# Altium footprint library LabLib.PcbLib: 145 footprints (part 7 of 10)
Each footprint in its own frame and in the unit in brackets; x right, y up, seen from the top. Pads: shape width x height; smd on the part's side, far side on the other; paste and mask are expansions set on the pad; w line width, h text height; cw(c..) or ccw(c..) is an arc to the next point about the centre after c.
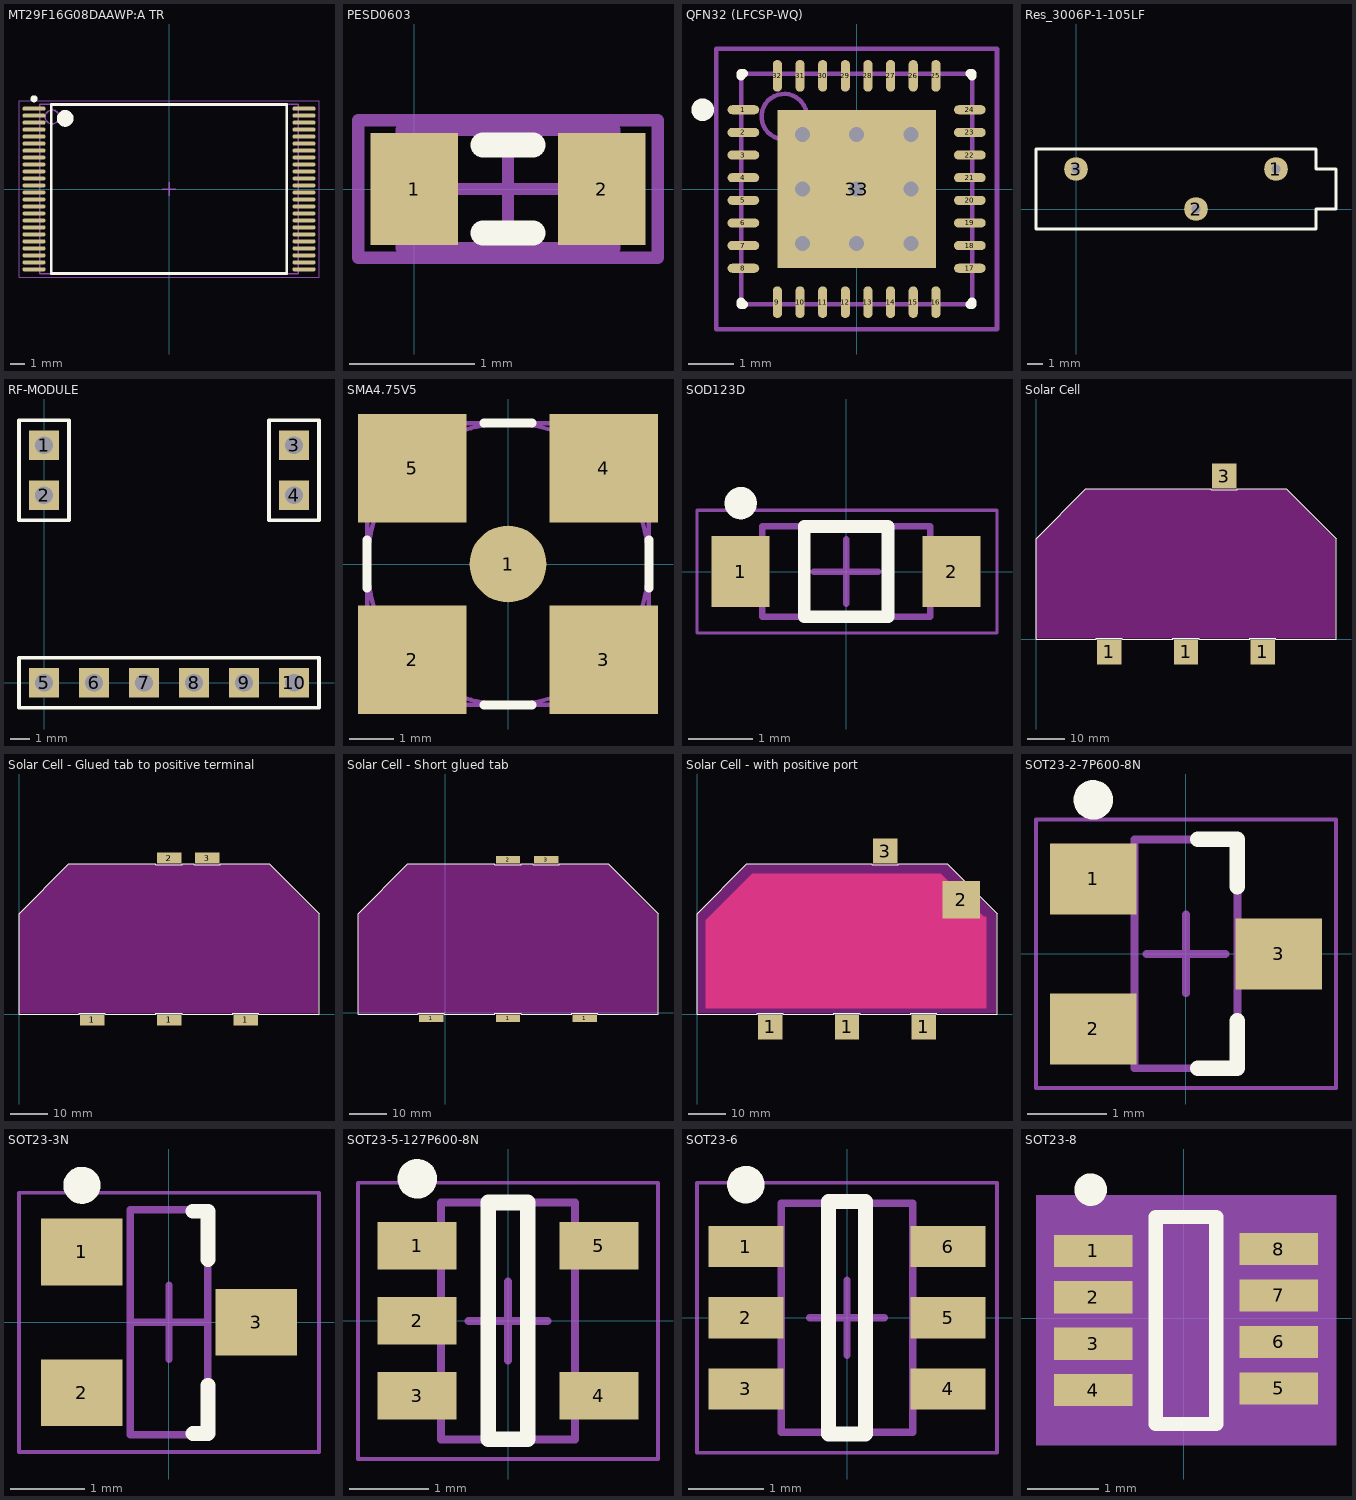
[diagram p6: the footprints below, top view; thin cyan lines are the x and y axes]

## MT29F16G08DAAWP:A TR [mm] "SOP127P600-8N medium density"
height 1.2
pads (48):
  oval 1.65x0.3 smd: 1(-9.65,5.75) 2(-9.65,5.25) 3(-9.65,4.75) 4(-9.65,4.25) 5(-9.65,3.75) 6(-9.65,3.25) 7(-9.65,2.75) 8(-9.65,2.25) 9(-9.65,1.75) 10(-9.65,1.25) 11(-9.65,0.75) 12(-9.65,0.25) 13(-9.65,-0.25) 14(-9.65,-0.75) 15(-9.65,-1.25) 16(-9.65,-1.75) 17(-9.65,-2.25) 18(-9.65,-2.75) 19(-9.65,-3.25) 20(-9.65,-3.75) 21(-9.65,-4.25) 22(-9.65,-4.75) 23(-9.65,-5.25) 24(-9.65,-5.75) 25(9.65,-5.75) 26(9.65,-5.25) 27(9.65,-4.75) 28(9.65,-4.25) 29(9.65,-3.75) 30(9.65,-3.25) 31(9.65,-2.75) 32(9.65,-2.25) 33(9.65,-1.75) 34(9.65,-1.25) 35(9.65,-0.75) 36(9.65,-0.25) 37(9.65,0.25) 38(9.65,0.75) 39(9.65,1.25) 40(9.65,1.75) 41(9.65,2.25) 42(9.65,2.75) 43(9.65,3.25) 44(9.65,3.75) 45(9.65,4.25) 46(9.65,4.75) 47(9.65,5.25) 48(9.65,5.75)
Top Overlay:
  circle w0.25: c-9.65,6.45 r0.125
  circle w0.6: c-7.425,5.05 r0.3
  lines w0.2: -8.425,-6.05 -8.425,6.05 8.425,6.05 8.425,-6.05 -8.425,-6.05
Mechanical 13:
  circle w0.1: c-8.35,5.15 r0.5
  lines w0.1: -9.25,-6.05 -9.25,6.05 9.25,6.05 9.25,-6.05 -9.25,-6.05
Mechanical 15:
  lines w0.05: -10.725,-6.3 -10.725,6.3 10.725,6.3 10.725,-6.3 -10.725,-6.3
  lines w0.1: -0.5,0 0.5,0 ; 0,-0.5 0,0.5
3D body: height 1.2, standoff 0.05, extent -9.25,-6.05 9.25,6.05

## PESD0603 [mm]
pads (2):
  rect 0.7x0.9 smd: 1(0,0) 2(1.5,0)
Top Overlay:
  lines w0.2: 0.55,-0.35 0.95,-0.35 ; 0.55,0.35 0.95,0.35
Mechanical 13:
  lines w0.1: -0.1,-0.475 -0.1,0.475 1.6,0.475 1.6,-0.475 -0.1,-0.475
Mechanical 15:
  lines w0.1: 0.275,0 1.225,0 ; 0.75,-0.475 0.75,0.475 ; -0.45,-0.55 -0.45,0.55 1.95,0.55 1.95,-0.55 -0.45,-0.55
3D body: height 0.9, standoff 0, extent -0.1,-0.475 1.6,0.475

## QFN32 (LFCSP-WQ) [mm] "QFN, 32-Leads, Body 5,1x5,1mm (max), Pitch 0,50mm, IPC Medium Density - Heimelaga"
height 0.8
pads (33):
  oval 0.7x0.2 smd: 1(-2.5,1.75) 2(-2.5,1.25) 3(-2.5,0.75) 4(-2.5,0.25) 5(-2.5,-0.25) 6(-2.5,-0.75) 7(-2.5,-1.25) 8(-2.5,-1.75) 17(2.5,-1.75) 18(2.5,-1.25) 19(2.5,-0.75) 20(2.5,-0.25) 21(2.5,0.25) 22(2.5,0.75) 23(2.5,1.25) 24(2.5,1.75)
  oval 0.2x0.7 smd: 9(-1.75,-2.5) 10(-1.25,-2.5) 11(-0.75,-2.5) 12(-0.25,-2.5) 13(0.25,-2.5) 14(0.75,-2.5) 15(1.25,-2.5) 16(1.75,-2.5) 25(1.75,2.5) 26(1.25,2.5) 27(0.75,2.5) 28(0.25,2.5) 29(-0.25,2.5) 30(-0.75,2.5) 31(-1.25,2.5) 32(-1.75,2.5)
  rect 3.5x3.5 smd: 33(0,0)
via -1.2,1.2 diameter 0.66 hole 0.33
via 0,1.2 diameter 0.66 hole 0.33
via 1.2,1.2 diameter 0.66 hole 0.33
via -1.2,0 diameter 0.66 hole 0.33
via 0,0 diameter 0.66 hole 0.33
via 1.2,0 diameter 0.66 hole 0.33
via -1.2,-1.2 diameter 0.66 hole 0.33
via 0,-1.2 diameter 0.66 hole 0.33
via 1.2,-1.2 diameter 0.66 hole 0.33
Top Overlay:
  circle w0.25: c-3.4,1.75 r0.125
  lines w0.2: -2.55,-2.5 -2.55,-2.55 -2.5,-2.55 ; -2.55,2.5 -2.55,2.55 -2.5,2.55 ; 2.5,-2.55 2.55,-2.55 2.55,-2.5 ; 2.5,2.55 2.55,2.55 2.55,2.5
Mechanical 13:
  circle w0.1: c-1.6,1.6 r0.5
  lines w0.1: -2.55,-2.55 -2.55,2.55 2.55,2.55 2.55,-2.55 -2.55,-2.55
Mechanical 15:
  lines w0.1: -0.5,0 0.5,0 ; 0,-0.5 0,0.5 ; -3.1,-3.1 -3.1,3.1 3.1,3.1 3.1,-3.1 -3.1,-3.1
3D body: height 0.8, standoff 0.01, extent -2.55,-2.55 2.55,2.55

## Res_3006P-1-105LF [mm]
pads (3):
  round 1.5 / inner rect 0x0 / far side round 1.5 hole 0.6 mask+0.07: 1(12.7,2.54) 2(7.62,0) 3(0,2.54)
Top Overlay:
  lines w0.2: -2.54,-1.27 15.24,-1.27 15.24,0 16.51,0 16.51,2.54 15.24,2.54 15.24,3.81 -2.54,3.81 -2.54,-1.27

## RF-MODULE [mm]
pads (10):
  rect 1.5x1.5 hole 0.9: 1(0,12.065) 2(0,9.525) 3(12.7,12.065) 4(12.7,9.525) 5(0,0) 6(2.54,0) 7(5.08,0) 8(7.62,0) 9(10.16,0) 10(12.7,0)
Top Overlay:
  lines w0.2: -1.27,-1.27 13.97,-1.27 13.97,1.27 -1.27,1.27 -1.27,-1.27 ; -1.27,8.255 1.27,8.255 1.27,13.335 -1.27,13.335 -1.27,8.255 ; 11.43,8.255 13.97,8.255 13.97,13.335 11.43,13.335 11.43,8.255

## SMA4.75V5 [mm] "Connector; RF Coaxial, SMA, SM; 5 Position; Vertical"
height 10.3
pads (5):
  round 1.73 smd: 1(0,0)
  rect 2.44x2.44 smd: 2(-2.16,-2.16) 3(2.16,-2.16) 4(2.16,2.16) 5(-2.16,2.16)
Top Overlay:
  lines w0.2: -3.175,-0.54 -3.175,0.54 ; -0.54,-3.175 0.54,-3.175 ; -0.54,3.175 0.54,3.175 ; 3.175,-0.54 3.175,0.54
Mechanical 13:
  circle w0.1: c0,0 r3.175
  lines w0.1: -3.175,-3.175 3.175,-3.175 3.175,3.175 -3.175,3.175 -3.175,-3.175
3D body: height 10.3, standoff 2.64, extent -3.174,-3.174 3.174,3.174
3D body: height 2.64, standoff 0, extent -3.174,-3.174 3.174,3.174

## SOD123D [mm]
height 1.1
pads (2):
  rect 0.9x1.1 smd: 1(-1.635,0) 2(1.635,0)
Top Overlay:
  circle w0.25: c-1.635,1.06 r0.125
  lines w0.2: -0.65,-0.7 -0.65,0.7 0.65,0.7 0.65,-0.7 -0.65,-0.7
Mechanical 13:
  lines w0.1: -1.3,-0.7 -1.3,0.7 1.3,0.7 1.3,-0.7 -1.3,-0.7
Mechanical 15:
  lines w0.05: -2.311,-0.95 -2.311,0.95 2.337,0.95 2.337,-0.95 -2.311,-0.95
  lines w0.1: -0.5,0 0.5,0 ; 0,-0.5 0,0.5
3D body: height 1.1, standoff 0.08, extent -1.3,-0.7 1.3,0.7

## Solar Cell [mm] "Without the positive port (No copper under the cell)"
pads (4):
  rect 6.5x6.755 smd: 1(19.575,-3.425) 1(40.075,-3.425) 1(60.575,-3.425) 3(50.325,43.575)
Top Overlay:
  lines w0.1: 80.15,26.775 66.8,40.125 66.775,40.15 53.8,40.15 53.8,39.95 46.8,39.95 46.8,40.15 13.35,40.15 0,26.8 0,0 16.1,0 16.1,0.2 23.1,0.2 23.1,0 36.6,0 36.6,0.2 43.6,0.2 43.6,0 57.1,0 57.1,0.2 64.1,0.2 64.1,0 80.15,0 80.15,26.8
Keep-Out Layer:
  region: 0.1,0.2 0.1,26.7 13.4,40 66.7,40 80,26.7 80,0.2

## Solar Cell - Glued tab to positive terminal [mm] "Positive tab glued on, all tabs shortened"
height 0.15
pads (5):
  rect 6.5x3 smd: 1(19.575,-1.548) 1(40.1,-1.548) 1(60.575,-1.548) 2(40.1,41.698) 3(50.325,41.698)
Top Layer keep-out:
  region: 0.1,0.2 0.1,26.7 13.4,40 66.7,40 80,26.7 80,0.2
Top Overlay:
  lines w0.1: 80.15,26.775 66.8,40.125 66.775,40.15 53.8,40.15 53.8,39.95 46.8,39.95 46.8,40.15 43.675,40.15 43.675,39.95 36.6,39.95 36.6,40.15 35.975,40.15 13.35,40.15 0,26.8 0,0 16.1,0 16.1,0.2 23.1,0.2 23.1,0 36.6,0 36.6,0.2 43.6,0.2 43.6,0 57.1,0 57.1,0.2 64.1,0.2 64.1,0 80.15,0 80.15,26.8

## Solar Cell - Short glued tab [mm] "Access to positive port, extra short tabs"
height 0.15
pads (5):
  rect 6.5x2 smd: 1(-3.65,-1.423) 1(16.825,-1.423) 1(37.325,-1.423) 2(16.825,40.823) 3(27.075,40.826)
Top Layer keep-out:
  region: -23.15,-0.175 -23.15,26.325 -9.85,39.625 43.45,39.625 56.75,26.325 56.75,-0.175
Top Overlay:
  lines w0.1: 20.325,39.575 20.35,39.575 ; 56.9,26.4 43.55,39.75 43.525,39.775 30.55,39.775 30.55,39.575 23.55,39.575 23.55,39.775 20.35,39.775 20.35,39.575 ; 56.9,26.425 56.9,-0.375 40.85,-0.375 40.85,-0.175 33.85,-0.175 33.85,-0.375 20.35,-0.375 20.35,-0.175 13.35,-0.175 13.35,-0.375 -0.15,-0.375 -0.15,-0.175 -7.15,-0.175 -7.15,-0.375 -23.25,-0.375 -23.25,26.425 -9.9,39.775 13.35,39.775 13.35,39.575 ; 13.35,39.575 20.35,39.575 ; 13.35,39.575 13.35,39.575

## Solar Cell - with positive port [mm] "With access to the positive port"
pads (5):
  rect 6.5x6.755 smd: 1(19.575,-3.425) 1(40.075,-3.425) 1(60.575,-3.425) 3(50.325,43.575)
  rect 10x10 smd: 2(70.55,30.6)
Top Layer:
  rectangle: 66.2,26.7 75.6,35.6
  region: 14.8,37.5 2.4,25.1 2.4,1.6 77.3,1.6 77.3,26 76.6,26 65.1,37.5
Top Overlay:
  lines w0.1: 80.15,26.775 66.8,40.125 66.775,40.15 53.8,40.15 53.8,39.95 46.8,39.95 46.8,40.15 13.35,40.15 0,26.8 0,0 16.1,0 16.1,0.2 23.1,0.2 23.1,0 36.6,0 36.6,0.2 43.6,0.2 43.6,0 57.1,0 57.1,0.2 64.1,0.2 64.1,0 80.15,0 80.15,26.8
Keep-Out Layer:
  region: 0.1,0.2 0.1,26.7 13.4,40 66.7,40 80,26.7 80,0.2

## SOT23-2-7P600-8N [mm]
height 0.9
pads (3):
  rect 1.1x0.9 smd: 1(-1.175,0.95) 2(-1.175,-0.95) 3(1.175,0)
Top Overlay:
  circle w0.25: c-1.175,1.95 r0.125
  lines w0.2: 0.15,-1.45 0.65,-1.45 0.65,-0.85 ; 0.15,1.45 0.65,1.45 0.65,0.85
Mechanical 13:
  lines w0.1: -0.65,-1.45 -0.65,1.45 0.65,1.45 0.65,-1.45 -0.65,-1.45
Mechanical 15:
  lines w0.05: -1.9,-1.7 -1.9,1.7 1.9,1.7 1.9,-1.7 -1.9,-1.7
  lines w0.1: -0.5,0 0.5,0 ; 0,-0.5 0,0.5
3D body: height 0.9, standoff 0.08, extent -0.65,-1.45 0.65,1.45

## SOT23-3N [mm]
height 1.4
pads (3):
  rect 1.1x0.9 smd: 1(-1.175,0.95) 2(-1.175,-0.95) 3(1.175,0)
Top Overlay:
  circle w0.25: c-1.175,1.85 r0.125
  lines w0.2: 0.325,-1.5 0.525,-1.5 0.525,-0.85 ; 0.325,1.5 0.525,1.5 0.525,0.85
Mechanical 13:
  lines w0.1: -0.525,-1.52 -0.525,1.52 0.525,1.52 0.525,-1.52 -0.525,-1.52
Mechanical 15:
  lines w0.05: -2.025,-1.75 -2.025,1.75 2.025,1.75 2.025,-1.75 -2.025,-1.75
  lines w0.1: -0.5,0 0.5,0 ; 0,-0.5 0,0.5
3D body: height 1.4, standoff 0.1, extent -0.525,-1.52 0.525,1.52

## SOT23-5-127P600-8N [mm]
height 1.15
pads (5):
  rect 1x0.6 smd: 1(-1.15,0.95) 2(-1.15,0) 3(-1.15,-0.95) 4(1.15,-0.95) 5(1.15,0.95)
Top Overlay:
  circle w0.25: c-1.15,1.8 r0.125
  lines w0.2: -0.25,-1.5 -0.25,1.5 0.25,1.5 0.25,-1.5 -0.25,-1.5
Mechanical 13:
  lines w0.1: -0.85,-1.5 0.85,-1.5 0.85,1.5 -0.85,1.5 -0.85,-1.5
Mechanical 15:
  lines w0.05: -1.9,-1.75 1.9,-1.75 1.9,1.75 -1.9,1.75 -1.9,-1.75
  lines w0.1: -0.5,0 0.5,0 ; 0,-0.5 0,0.5
3D body: height 1.15, standoff 0.08, extent -0.85,-1.5 0.85,1.5

## SOT23-6 [mm] "SOT23, 6-Leads, Body 2,90x2,80mm, Pitch 0,95mm, IPC Medium Density"
height 1.45
pads (6):
  rect 1x0.55 smd: 1(-1.35,0.95) 2(-1.35,0) 3(-1.35,-0.95) 4(1.35,-0.95) 5(1.35,0) 6(1.35,0.95)
Top Overlay:
  circle w0.25: c-1.35,1.775 r0.125
  lines w0.2: -0.25,-1.55 -0.25,1.55 0.25,1.55 0.25,-1.55 -0.25,-1.55
Mechanical 13:
  lines w0.1: -0.875,-1.525 0.875,-1.525 0.875,1.525 -0.875,1.525 -0.875,-1.525
Mechanical 15:
  lines w0.05: -2,-1.8 2,-1.8 2,1.8 -2,1.8 -2,-1.8
  lines w0.1: -0.5,0 0.5,0 ; 0,-0.5 0,0.5
3D body: height 1.45, standoff 0, extent -0.875,-1.525 0.875,1.525

## SOT23-8 [mm]
pads (8):
  rect 1.1x0.45 smd: 1(-1.265,0.943) 2(-1.265,0.293) 3(-1.265,-0.357) 4(-1.265,-1.007) 5(1.335,-0.982) 6(1.335,-0.332) 7(1.335,0.318) 8(1.335,0.968)
Top Overlay:
  circle w0.254: c-1.3,1.8 r0.1
  lines w0.2: -0.39,-1.482 0.46,-1.482 0.46,1.418 -0.39,1.418 -0.39,-1.482
Mechanical 7:
  text "3" at -2.535,-0.865 h0.64
  text "2" at -2.535,-0.215 h0.64
  text "4" at -2.535,-1.515 h0.64
  text "8" at 2.605,0.46 h0.64
  text "6" at 2.605,-0.84 h0.64
  text "5" at 2.605,-1.49 h0.64
  text "7" at 2.605,-0.19 h0.64
  text "1" at -2.535,0.435 h0.64
Mechanical 10:
  pour cut-out: 0.835,-0.857 0.835,-1.157 1.435,-1.157 1.435,-0.857
  pour cut-out: 0.835,-0.207 0.835,-0.507 1.435,-0.507 1.435,-0.207
  pour cut-out: 0.835,0.443 0.835,0.143 1.435,0.143 1.435,0.443
  pour cut-out: 0.835,1.093 0.835,0.793 1.435,0.793 1.435,1.093
  pour cut-out: -1.365,-0.857 -1.365,-1.157 -0.765,-1.157 -0.765,-0.857
  pour cut-out: -1.365,-0.207 -1.365,-0.507 -0.765,-0.507 -0.765,-0.207
  pour cut-out: -1.365,0.443 -1.365,0.143 -0.765,0.143 -0.765,0.443
  pour cut-out: -1.365,1.093 -1.365,0.793 -0.765,0.793 -0.765,1.093
  pour cut-out: -0.465,1.223 -0.563,1.203 -0.645,1.148 -0.7,1.066 -0.72,0.968 -0.7,0.87 -0.645,0.788 -0.563,0.733 -0.465,0.713 -0.367,0.733 -0.285,0.788 -0.23,0.87 -0.21,0.968 -0.23,1.066 -0.285,1.148 -0.367,1.203
  lines w0.025: -0.765,-1.482 0.835,-1.482 0.835,1.418 -0.765,1.418 -0.765,-1.482
Mechanical 11:
  region: -2.065,1.718 -2.065,-1.782 2.135,-1.782 2.135,1.718
3D body: height 1.2, standoff 0, extent -1.917,-1.334 1.987,1.295